# Altium footprint library WE-BAL.PcbLib: 8 footprints
Each footprint in its own frame and in the unit in brackets; x right, y up, seen from the top. Pads: shape width x height; smd on the part's side, far side on the other; paste and mask are expansions set on the pad; w line width, h text height; cw(c..) or ccw(c..) is an arc to the next point about the centre after c.
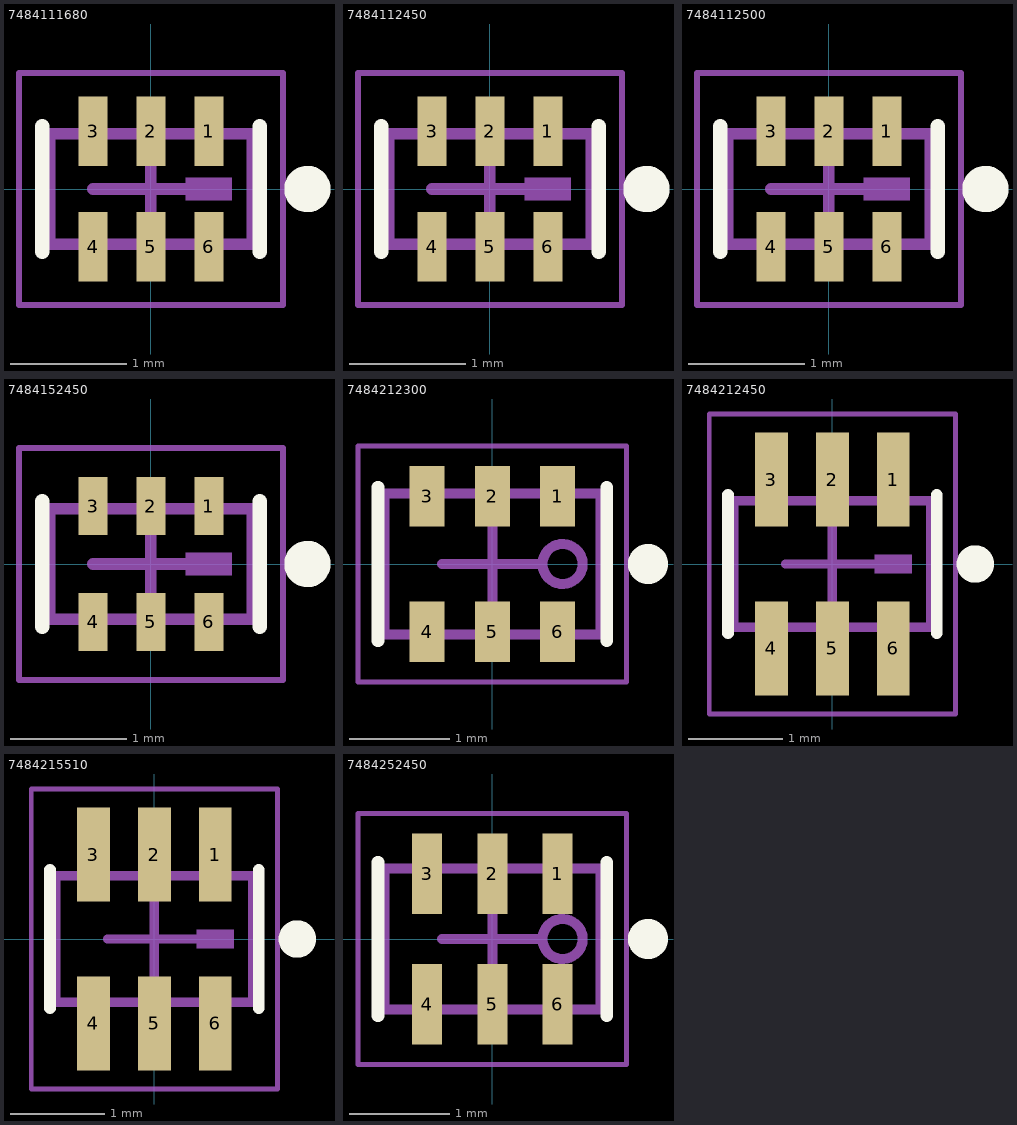
[diagram p0: the footprints below, top view; thin cyan lines are the x and y axes]

## 7484111680 [mm] "Multilayer Chip Balun"
height 0.7
pads (6):
  rect 0.25x0.6 smd: 1(0.5,0.5) 2(0,0.5) 3(-0.5,0.5) 4(-0.5,-0.5) 5(0,-0.5) 6(0.5,-0.5)
Top Overlay:
  circle w0.2: c1.35,0 r0.1
  lines w0.127: -0.938,-0.539 -0.938,0.539 ; 0.938,-0.539 0.938,0.539
Top Assembly:
  rectangle: 0.3,-0.1 0.7,0.1
  lines w0.1: -0.875,-0.475 0.875,-0.475 0.875,0.475 -0.875,0.475 -0.875,-0.475
Top Designator:
  text ".Designator" at -3.647,-0.357 h1
Top Courtyard:
  lines w0.05: -1.138,-1 1.138,-1 1.138,1 -1.138,1 -1.138,-1
Top Component Center:
  lines w0.1: -0.5,0 0.5,0 ; 0,-0.5 0,0.5
3D body "7484111680.stp": height 0.7, standoff 0, extent -0.8,-0.4 0.8,0.4

## 7484112450 [mm] "Multilayer Chip Balun"
height 0.7
pads (6):
  rect 0.25x0.6 smd: 1(0.5,0.5) 2(0,0.5) 3(-0.5,0.5) 4(-0.5,-0.5) 5(0,-0.5) 6(0.5,-0.5)
Top Overlay:
  circle w0.2: c1.35,0 r0.1
  lines w0.127: -0.938,-0.539 -0.938,0.539 ; 0.938,-0.539 0.938,0.539
Top Assembly:
  rectangle: 0.3,-0.1 0.7,0.1
  lines w0.1: -0.875,-0.475 0.875,-0.475 0.875,0.475 -0.875,0.475 -0.875,-0.475
Top Designator:
  text ".Designator" at -3.647,-0.357 h1
Top Courtyard:
  lines w0.05: -1.138,-1 1.138,-1 1.138,1 -1.138,1 -1.138,-1
Top Component Center:
  lines w0.1: -0.5,0 0.5,0 ; 0,-0.5 0,0.5
3D body "7484111680.stp": height 0.7, standoff 0, extent -0.8,-0.4 0.8,0.4

## 7484112500 [mm] "Multilayer Chip Balun"
height 0.4
pads (6):
  rect 0.25x0.6 smd: 1(0.5,0.5) 2(0,0.5) 3(-0.5,0.5) 4(-0.5,-0.5) 5(0,-0.5) 6(0.5,-0.5)
Top Overlay:
  circle w0.2: c1.35,0 r0.1
  lines w0.127: -0.938,-0.539 -0.938,0.539 ; 0.938,-0.539 0.938,0.539
Top Assembly:
  rectangle: 0.3,-0.1 0.7,0.1
  lines w0.1: -0.875,-0.475 0.875,-0.475 0.875,0.475 -0.875,0.475 -0.875,-0.475
Top Designator:
  text ".Designator" at -3.647,-0.357 h1
Top Courtyard:
  lines w0.05: -1.138,-1 1.138,-1 1.138,1 -1.138,1 -1.138,-1
Top Component Center:
  lines w0.1: -0.5,0 0.5,0 ; 0,-0.5 0,0.5
3D body "7484112500.stp": height 0.4, standoff 0, extent -0.8,-0.4 0.8,0.4

## 7484152450 [mm] "Multilayer Chip Balun"
height 0.5
pads (6):
  rect 0.25x0.5 smd: 1(0.5,0.5) 2(0,0.5) 3(-0.5,0.5) 4(-0.5,-0.5) 5(0,-0.5) 6(0.5,-0.5)
Top Overlay:
  circle w0.2: c1.35,0 r0.1
  lines w0.127: -0.938,-0.539 -0.938,0.539 ; 0.938,-0.539 0.938,0.539
Top Assembly:
  rectangle: 0.3,-0.1 0.7,0.1
  lines w0.1: -0.875,-0.475 -0.875,0.475 0.875,0.475 0.875,-0.475 -0.875,-0.475
Top Designator:
  text ".Designator" at -3.647,-0.357 h1
Top Courtyard:
  lines w0.05: -1.138,-1 -1.138,1 1.138,1 1.138,-1 -1.138,-1
Top Component Center:
  lines w0.1: -0.5,0 0.5,0 ; 0,-0.5 0,0.5
3D body "7484152450.stp": height 0.5, standoff 0, extent -0.8,-0.4 0.8,0.4

## 7484212300 [mm] "Multilayer Chip Balun"
height 0.9
pads (6):
  rect 0.35x0.6 smd: 1(0.65,0.675) 2(0,0.675) 3(-0.65,0.675) 4(-0.65,-0.675) 5(0,-0.675) 6(0.65,-0.675)
Top Overlay:
  circle w0.2: c1.55,0 r0.1
  lines w0.127: -1.138,-0.764 -1.138,0.764 ; 1.138,-0.764 1.138,0.764
Top Assembly:
  circle w0.1: c0.7,0 r0.2
  lines w0.1: -1.075,-0.7 -1.075,0.7 1.075,0.7 1.075,-0.7 -1.075,-0.7
Top Designator:
  text ".Designator" at -3.647,-0.357 h1
Top Courtyard:
  lines w0.05: -1.339,-1.175 -1.339,1.175 1.339,1.175 1.339,-1.175 -1.339,-1.175
Top Component Center:
  lines w0.1: -0.5,0 0.5,0 ; 0,-0.5 0,0.5
3D body "7484212300.stp": height 0.9, standoff 0, extent -1,-0.626 1,0.626

## 7484212450 [mm] "Multilayer Chip Balun"
height 0.95
pads (6):
  rect 0.35x1 smd: 1(0.65,0.9) 2(0,0.9) 3(-0.65,0.9) 4(-0.65,-0.9) 5(0,-0.9) 6(0.65,-0.9)
Top Overlay:
  circle w0.2: c1.525,0 r0.1
  lines w0.127: -1.114,-0.738 -1.114,0.738 ; 1.114,-0.738 1.114,0.738
Top Assembly:
  rectangle: 0.45,-0.1 0.85,0.1
  lines w0.1: -1.05,-0.675 -1.05,0.675 1.05,0.675 1.05,-0.675 -1.05,-0.675
Top Designator:
  text ".Designator" at -3.647,-0.357 h1
Top Courtyard:
  lines w0.05: -1.314,-1.6 -1.314,1.6 1.314,1.6 1.314,-1.6 -1.314,-1.6
Top Component Center:
  lines w0.1: -0.5,0 0.5,0 ; 0,-0.5 0,0.5
3D body "7484212450.stp": height 0.95, standoff 0, extent -1,-0.626 1,0.626

## 7484215510 [mm] "Multilayer Chip Balun"
height 0.95
pads (6):
  rect 0.35x1 smd: 1(0.65,0.9) 2(0,0.9) 3(-0.65,0.9) 4(-0.65,-0.9) 5(0,-0.9) 6(0.65,-0.9)
Top Overlay:
  circle w0.2: c1.525,0 r0.1
  lines w0.127: -1.114,-0.738 -1.114,0.738 ; 1.114,-0.738 1.114,0.738
Top Assembly:
  rectangle: 0.45,-0.1 0.85,0.1
  lines w0.1: -1.05,-0.675 1.05,-0.675 1.05,0.675 -1.05,0.675 -1.05,-0.675
Top Designator:
  text ".Designator" at -3.647,-0.357 h1
Top Courtyard:
  lines w0.05: -1.314,-1.6 1.314,-1.6 1.314,1.6 -1.314,1.6 -1.314,-1.6
Top Component Center:
  lines w0.1: -0.5,0 0.5,0 ; 0,-0.5 0,0.5
3D body "7484212450.stp": height 0.95, standoff 0, extent -1,-0.626 1,0.626

## 7484252450 [mm] "Multilayer Chip Balun"
height 0.95
pads (6):
  rect 0.3x0.8 smd: 1(0.65,0.65) 2(0,0.65) 3(-0.65,0.65) 4(-0.65,-0.65) 5(0,-0.65) 6(0.65,-0.65)
Top Overlay:
  circle w0.2: c1.55,0 r0.1
  lines w0.127: -1.138,-0.764 -1.138,0.764 ; 1.138,-0.764 1.138,0.764
Top Assembly:
  circle w0.1: c0.7,0 r0.2
  lines w0.1: -1.075,-0.7 1.075,-0.7 1.075,0.7 -1.075,0.7 -1.075,-0.7
Top Designator:
  text ".Designator" at -3.647,-0.357 h1
Top Courtyard:
  lines w0.05: -1.339,-1.25 1.339,-1.25 1.339,1.25 -1.339,1.25 -1.339,-1.25
Top Component Center:
  lines w0.1: -0.5,0 0.5,0 ; 0,-0.5 0,0.5
3D body "7484252450.stp": height 0.95, standoff 0, extent -1,-0.626 1,0.626